# Altium schematic symbol library DS3232SN.SchLib: 1 symbol
Pins are listed as number, name and electrical type; pins without a type are passive.

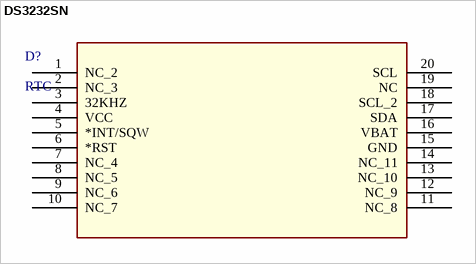
[diagram p0: symbol DS3232SN]

## DS3232SN
designator D?, comment RTC
Extremely Accurate IÂ²C RTC with Integrated Crystal and SRAM; MF: Analog Devices; MP: DS3232SN#; SnapEDA_Link: https://www.snapeda.com/parts/DS3232SN%23/Analog+Devices/view-part/?ref=snap; Package: SOIC-20 Maxim; Value: *; Check_prices: https://www.snapeda.com/parts/DS3232SN%23/Analog+Devices/view-part/?ref=eda
footprint 21-0042B_20
pins: 1 NC_2, 2 NC_3, 3 32KHZ, 4 VCC (power), 5 *INT/SQW, 6 *RST, 7 NC_4, 8 NC_5, 9 NC_6, 10 NC_7, 11 NC_8, 12 NC_9, 13 NC_10, 14 NC_11, 15 GND (power), 16 VBAT (power), 17 SDA, 18 SCL_2, 19 NC, 20 SCL